# Altium footprint library TSSOP_50P_L.PcbLib: 24 footprints (part 1 of 2)
Each footprint in its own frame and in the unit in brackets; x right, y up, seen from the top. Pads: shape width x height; smd on the part's side, far side on the other; paste and mask are expansions set on the pad; w line width, h text height; cw(c..) or ccw(c..) is an arc to the next point about the centre after c.
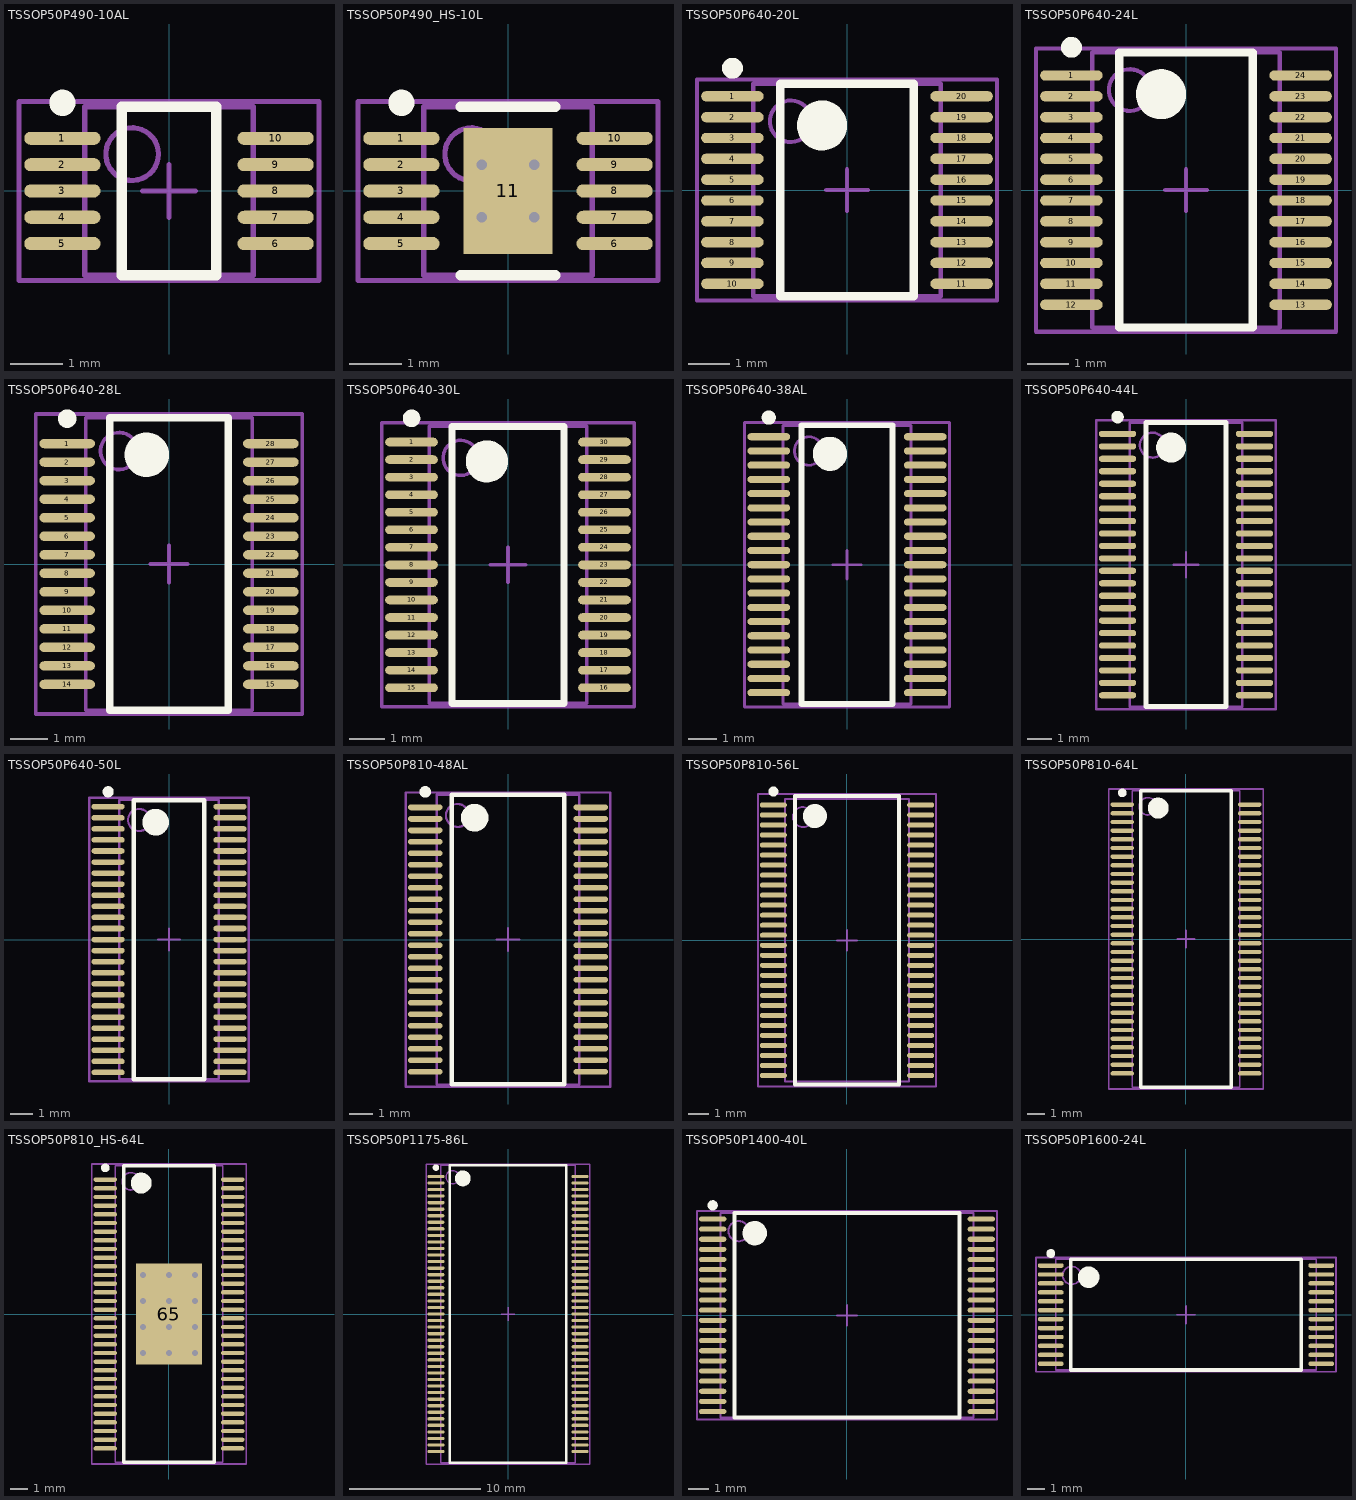
[diagram p0: the footprints below, top view; thin cyan lines are the x and y axes]

## TSSOP50P490-10AL [mm] "TSSOP, 10-Leads, Body 3x3mm, Pitch 0.5mm, IPC High Density"
height 1.1
pads (10):
  oval 1.45x0.25 smd: 1(-2.025,1) 2(-2.025,0.5) 3(-2.025,0) 4(-2.025,-0.5) 5(-2.025,-1) 6(2.025,-1) 7(2.025,-0.5) 8(2.025,0) 9(2.025,0.5) 10(2.025,1)
Top Overlay:
  circle w0.25: c-2.025,1.675 r0.125
  lines w0.2: -0.9,-1.6 -0.9,1.6 0.9,1.6 0.9,-1.6 -0.9,-1.6
Mechanical 13:
  circle w0.1: c-0.7,0.7 r0.5
  lines w0.1: -1.6,-1.6 -1.6,1.6 1.6,1.6 1.6,-1.6 -1.6,-1.6
Mechanical 15:
  lines w0.1: -0.5,0 0.5,0 ; 0,-0.5 0,0.5 ; -2.85,-1.7 -2.85,1.7 2.85,1.7 2.85,-1.7 -2.85,-1.7
3D body: height 1.1, standoff 0, extent -1.6,-1.6 1.6,1.6

## TSSOP50P490_HS-10L [mm] "TSSOP, 10-Leads, Body 3x3mm, Pitch 0.5mm, Exposed Pad, IPC High Density"
height 1.1
pads (11):
  oval 1.45x0.25 smd: 1(-2.025,1) 2(-2.025,0.5) 3(-2.025,0) 4(-2.025,-0.5) 5(-2.025,-1) 6(2.025,-1) 7(2.025,-0.5) 8(2.025,0) 9(2.025,0.5) 10(2.025,1)
  rect 1.7x2.4 smd: 11(0,0)
via -0.5,0.5 diameter 0.4 hole 0.2
via 0.5,0.5 diameter 0.4 hole 0.2
via -0.5,-0.5 diameter 0.4 hole 0.2
via 0.5,-0.5 diameter 0.4 hole 0.2
Top Overlay:
  circle w0.25: c-2.025,1.675 r0.125
  lines w0.2: -0.9,-1.6 0.9,-1.6 ; -0.9,1.6 0.9,1.6
Mechanical 13:
  circle w0.1: c-0.7,0.7 r0.5
  lines w0.1: -1.6,-1.6 -1.6,1.6 1.6,1.6 1.6,-1.6 -1.6,-1.6
Mechanical 15:
  lines w0.1: -0.5,0 0.5,0 ; 0,-0.5 0,0.5 ; -2.85,-1.7 -2.85,1.7 2.85,1.7 2.85,-1.7 -2.85,-1.7
3D body: height 1.1, standoff 0.05, extent -1.6,-1.6 1.6,1.6

## TSSOP50P640-20L [mm] "TSSOP, 20-Leads, Body 5x4.4mm, Pitch 0.5mm, IPC High Density"
height 1.2
pads (20):
  oval 1.5x0.25 smd: 1(-2.75,2.25) 2(-2.75,1.75) 3(-2.75,1.25) 4(-2.75,0.75) 5(-2.75,0.25) 6(-2.75,-0.25) 7(-2.75,-0.75) 8(-2.75,-1.25) 9(-2.75,-1.75) 10(-2.75,-2.25) 11(2.75,-2.25) 12(2.75,-1.75) 13(2.75,-1.25) 14(2.75,-0.75) 15(2.75,-0.25) 16(2.75,0.25) 17(2.75,0.75) 18(2.75,1.25) 19(2.75,1.75) 20(2.75,2.25)
Top Overlay:
  circle w0.25: c-2.75,2.925 r0.125
  circle w0.6: c-0.6,1.55 r0.3
  lines w0.2: -1.6,-2.55 -1.6,2.55 1.6,2.55 1.6,-2.55 -1.6,-2.55
Mechanical 13:
  circle w0.1: c-1.35,1.65 r0.5
  lines w0.1: -2.25,-2.55 -2.25,2.55 2.25,2.55 2.25,-2.55 -2.25,-2.55
Mechanical 15:
  lines w0.1: -0.5,0 0.5,0 ; 0,-0.5 0,0.5 ; -3.6,-2.65 -3.6,2.65 3.6,2.65 3.6,-2.65 -3.6,-2.65
3D body: height 1.2, standoff 0, extent -2.25,-2.55 2.25,2.55

## TSSOP50P640-24L [mm] "TSSOP, 24-Leads, Body 6.5x4.4mm, Pitch 0.5mm, IPC High Density"
height 1.2
pads (24):
  oval 1.5x0.25 smd: 1(-2.75,2.75) 2(-2.75,2.25) 3(-2.75,1.75) 4(-2.75,1.25) 5(-2.75,0.75) 6(-2.75,0.25) 7(-2.75,-0.25) 8(-2.75,-0.75) 9(-2.75,-1.25) 10(-2.75,-1.75) 11(-2.75,-2.25) 12(-2.75,-2.75) 13(2.75,-2.75) 14(2.75,-2.25) 15(2.75,-1.75) 16(2.75,-1.25) 17(2.75,-0.75) 18(2.75,-0.25) 19(2.75,0.25) 20(2.75,0.75) 21(2.75,1.25) 22(2.75,1.75) 23(2.75,2.25) 24(2.75,2.75)
Top Overlay:
  circle w0.6: c-0.6,2.3 r0.3
  circle w0.25: c-2.75,3.425 r0.125
  lines w0.2: -1.6,-3.3 1.6,-3.3 1.6,3.3 -1.6,3.3 -1.6,-3.3
Mechanical 13:
  circle w0.1: c-1.35,2.4 r0.5
  lines w0.1: -2.25,-3.3 2.25,-3.3 2.25,3.3 -2.25,3.3 -2.25,-3.3
Mechanical 15:
  lines w0.1: -0.5,0 0.5,0 ; 0,-0.5 0,0.5 ; -3.6,-3.4 3.6,-3.4 3.6,3.4 -3.6,3.4 -3.6,-3.4
3D body: height 1.2, standoff 0, extent -2.25,-3.3 2.25,3.3

## TSSOP50P640-28L [mm] "TSSOP, 28-Leads, Body 7.8x4.4mm, Pitch 0.5mm, IPC High Density"
height 1.2
pads (28):
  oval 1.5x0.25 smd: 1(-2.75,3.25) 2(-2.75,2.75) 3(-2.75,2.25) 4(-2.75,1.75) 5(-2.75,1.25) 6(-2.75,0.75) 7(-2.75,0.25) 8(-2.75,-0.25) 9(-2.75,-0.75) 10(-2.75,-1.25) 11(-2.75,-1.75) 12(-2.75,-2.25) 13(-2.75,-2.75) 14(-2.75,-3.25) 15(2.75,-3.25) 16(2.75,-2.75) 17(2.75,-2.25) 18(2.75,-1.75) 19(2.75,-1.25) 20(2.75,-0.75) 21(2.75,-0.25) 22(2.75,0.25) 23(2.75,0.75) 24(2.75,1.25) 25(2.75,1.75) 26(2.75,2.25) 27(2.75,2.75) 28(2.75,3.25)
Top Overlay:
  circle w0.6: c-0.6,2.95 r0.3
  circle w0.25: c-2.75,3.925 r0.125
  lines w0.2: -1.6,-3.95 1.6,-3.95 1.6,3.95 -1.6,3.95 -1.6,-3.95
Mechanical 13:
  circle w0.1: c-1.35,3.05 r0.5
  lines w0.1: -2.25,-3.95 2.25,-3.95 2.25,3.95 -2.25,3.95 -2.25,-3.95
Mechanical 15:
  lines w0.1: -0.5,0 0.5,0 ; 0,-0.5 0,0.5 ; -3.6,-4.05 3.6,-4.05 3.6,4.05 -3.6,4.05 -3.6,-4.05
3D body: height 1.2, standoff 0, extent -2.25,-3.95 2.25,3.95

## TSSOP50P640-30L [mm] "TSSOP, 30-Leads, Body 7.8x4.4mm, Pitch 0.5mm, IPC High Density"
height 1.2
pads (30):
  oval 1.5x0.25 smd: 1(-2.75,3.5) 2(-2.75,3) 3(-2.75,2.5) 4(-2.75,2) 5(-2.75,1.5) 6(-2.75,1) 7(-2.75,0.5) 8(-2.75,0) 9(-2.75,-0.5) 10(-2.75,-1) 11(-2.75,-1.5) 12(-2.75,-2) 13(-2.75,-2.5) 14(-2.75,-3) 15(-2.75,-3.5) 16(2.75,-3.5) 17(2.75,-3) 18(2.75,-2.5) 19(2.75,-2) 20(2.75,-1.5) 21(2.75,-1) 22(2.75,-0.5) 23(2.75,0) 24(2.75,0.5) 25(2.75,1) 26(2.75,1.5) 27(2.75,2) 28(2.75,2.5) 29(2.75,3) 30(2.75,3.5)
Top Overlay:
  circle w0.6: c-0.6,2.95 r0.3
  circle w0.25: c-2.75,4.175 r0.125
  lines w0.2: -1.6,-3.95 1.6,-3.95 1.6,3.95 -1.6,3.95 -1.6,-3.95
Mechanical 13:
  circle w0.1: c-1.35,3.05 r0.5
  lines w0.1: -2.25,-3.95 2.25,-3.95 2.25,3.95 -2.25,3.95 -2.25,-3.95
Mechanical 15:
  lines w0.1: -0.5,0 0.5,0 ; 0,-0.5 0,0.5 ; -3.6,-4.05 3.6,-4.05 3.6,4.05 -3.6,4.05 -3.6,-4.05
3D body: height 1.2, standoff 0, extent -2.25,-3.95 2.25,3.95

## TSSOP50P640-38AL [mm] "TSSOP, 38-Leads, Body 9.7x4.4mm, Pitch 0.5mm, IPC High Density"
height 1.2
pads (38):
  oval 1.5x0.25 smd: 1(-2.75,4.5) 2(-2.75,4) 3(-2.75,3.5) 4(-2.75,3) 5(-2.75,2.5) 6(-2.75,2) 7(-2.75,1.5) 8(-2.75,1) 9(-2.75,0.5) 10(-2.75,0) 11(-2.75,-0.5) 12(-2.75,-1) 13(-2.75,-1.5) 14(-2.75,-2) 15(-2.75,-2.5) 16(-2.75,-3) 17(-2.75,-3.5) 18(-2.75,-4) 19(-2.75,-4.5) 20(2.75,-4.5) 21(2.75,-4) 22(2.75,-3.5) 23(2.75,-3) 24(2.75,-2.5) 25(2.75,-2) 26(2.75,-1.5) 27(2.75,-1) 28(2.75,-0.5) 29(2.75,0) 30(2.75,0.5) 31(2.75,1) 32(2.75,1.5) 33(2.75,2) 34(2.75,2.5) 35(2.75,3) 36(2.75,3.5) 37(2.75,4) 38(2.75,4.5)
Top Overlay:
  circle w0.6: c-0.6,3.9 r0.3
  circle w0.25: c-2.75,5.175 r0.125
  lines w0.2: -1.6,-4.9 1.6,-4.9 1.6,4.9 -1.6,4.9 -1.6,-4.9
Mechanical 13:
  circle w0.1: c-1.35,4 r0.5
  lines w0.1: -2.25,-4.9 2.25,-4.9 2.25,4.9 -2.25,4.9 -2.25,-4.9
Mechanical 15:
  lines w0.1: -0.5,0 0.5,0 ; 0,-0.5 0,0.5 ; -3.6,-5 3.6,-5 3.6,5 -3.6,5 -3.6,-5
3D body: height 1.2, standoff 0, extent -2.25,-4.9 2.25,4.9

## TSSOP50P640-44L [mm] "TSSOP, 44-Leads, Body 11x4.4mm, Pitch 0.5mm, IPC High Density"
height 1.2
pads (44):
  oval 1.5x0.25 smd: 1(-2.75,5.25) 2(-2.75,4.75) 3(-2.75,4.25) 4(-2.75,3.75) 5(-2.75,3.25) 6(-2.75,2.75) 7(-2.75,2.25) 8(-2.75,1.75) 9(-2.75,1.25) 10(-2.75,0.75) 11(-2.75,0.25) 12(-2.75,-0.25) 13(-2.75,-0.75) 14(-2.75,-1.25) 15(-2.75,-1.75) 16(-2.75,-2.25) 17(-2.75,-2.75) 18(-2.75,-3.25) 19(-2.75,-3.75) 20(-2.75,-4.25) 21(-2.75,-4.75) 22(-2.75,-5.25) 23(2.75,-5.25) 24(2.75,-4.75) 25(2.75,-4.25) 26(2.75,-3.75) 27(2.75,-3.25) 28(2.75,-2.75) 29(2.75,-2.25) 30(2.75,-1.75) 31(2.75,-1.25) 32(2.75,-0.75) 33(2.75,-0.25) 34(2.75,0.25) 35(2.75,0.75) 36(2.75,1.25) 37(2.75,1.75) 38(2.75,2.25) 39(2.75,2.75) 40(2.75,3.25) 41(2.75,3.75) 42(2.75,4.25) 43(2.75,4.75) 44(2.75,5.25)
Top Overlay:
  circle w0.25: c-2.75,5.925 r0.125
  circle w0.6: c-0.6,4.7 r0.3
  lines w0.2: -1.6,-5.7 -1.6,5.7 1.6,5.7 1.6,-5.7 -1.6,-5.7
Mechanical 13:
  circle w0.1: c-1.35,4.8 r0.5
  lines w0.1: -2.25,-5.7 -2.25,5.7 2.25,5.7 2.25,-5.7 -2.25,-5.7
Mechanical 15:
  lines w0.1: -0.5,0 0.5,0 ; 0,-0.5 0,0.5 ; -3.6,-5.8 -3.6,5.8 3.6,5.8 3.6,-5.8 -3.6,-5.8
3D body: height 1.2, standoff 0, extent -2.25,-5.7 2.25,5.7

## TSSOP50P640-50L [mm] "TSSOP, 50-Leads, Body 12.5x4.4mm, Pitch 0.5mm, IPC High Density"
height 1.2
pads (50):
  oval 1.5x0.25 smd: 1(-2.75,6) 2(-2.75,5.5) 3(-2.75,5) 4(-2.75,4.5) 5(-2.75,4) 6(-2.75,3.5) 7(-2.75,3) 8(-2.75,2.5) 9(-2.75,2) 10(-2.75,1.5) 11(-2.75,1) 12(-2.75,0.5) 13(-2.75,0) 14(-2.75,-0.5) 15(-2.75,-1) 16(-2.75,-1.5) 17(-2.75,-2) 18(-2.75,-2.5) 19(-2.75,-3) 20(-2.75,-3.5) 21(-2.75,-4) 22(-2.75,-4.5) 23(-2.75,-5) 24(-2.75,-5.5) 25(-2.75,-6) 26(2.75,-6) 27(2.75,-5.5) 28(2.75,-5) 29(2.75,-4.5) 30(2.75,-4) 31(2.75,-3.5) 32(2.75,-3) 33(2.75,-2.5) 34(2.75,-2) 35(2.75,-1.5) 36(2.75,-1) 37(2.75,-0.5) 38(2.75,0) 39(2.75,0.5) 40(2.75,1) 41(2.75,1.5) 42(2.75,2) 43(2.75,2.5) 44(2.75,3) 45(2.75,3.5) 46(2.75,4) 47(2.75,4.5) 48(2.75,5) 49(2.75,5.5) 50(2.75,6)
Top Overlay:
  circle w0.6: c-0.6,5.3 r0.3
  circle w0.25: c-2.75,6.675 r0.125
  lines w0.2: -1.6,-6.3 1.6,-6.3 1.6,6.3 -1.6,6.3 -1.6,-6.3
Mechanical 13:
  circle w0.1: c-1.35,5.4 r0.5
  lines w0.1: -2.25,-6.3 2.25,-6.3 2.25,6.3 -2.25,6.3 -2.25,-6.3
Mechanical 15:
  lines w0.1: -0.5,0 0.5,0 ; 0,-0.5 0,0.5 ; -3.6,-6.4 3.6,-6.4 3.6,6.4 -3.6,6.4 -3.6,-6.4
3D body: height 1.2, standoff 0, extent -2.25,-6.3 2.25,6.3

## TSSOP50P810-48AL [mm] "TSSOP, 48-Leads, Body 12.5x6.1mm, Pitch 0.5mm, IPC High Density"
height 1.2
pads (48):
  oval 1.5x0.25 smd: 1(-3.6,5.75) 2(-3.6,5.25) 3(-3.6,4.75) 4(-3.6,4.25) 5(-3.6,3.75) 6(-3.6,3.25) 7(-3.6,2.75) 8(-3.6,2.25) 9(-3.6,1.75) 10(-3.6,1.25) 11(-3.6,0.75) 12(-3.6,0.25) 13(-3.6,-0.25) 14(-3.6,-0.75) 15(-3.6,-1.25) 16(-3.6,-1.75) 17(-3.6,-2.25) 18(-3.6,-2.75) 19(-3.6,-3.25) 20(-3.6,-3.75) 21(-3.6,-4.25) 22(-3.6,-4.75) 23(-3.6,-5.25) 24(-3.6,-5.75) 25(3.6,-5.75) 26(3.6,-5.25) 27(3.6,-4.75) 28(3.6,-4.25) 29(3.6,-3.75) 30(3.6,-3.25) 31(3.6,-2.75) 32(3.6,-2.25) 33(3.6,-1.75) 34(3.6,-1.25) 35(3.6,-0.75) 36(3.6,-0.25) 37(3.6,0.25) 38(3.6,0.75) 39(3.6,1.25) 40(3.6,1.75) 41(3.6,2.25) 42(3.6,2.75) 43(3.6,3.25) 44(3.6,3.75) 45(3.6,4.25) 46(3.6,4.75) 47(3.6,5.25) 48(3.6,5.75)
Top Overlay:
  circle w0.6: c-1.45,5.3 r0.3
  circle w0.25: c-3.6,6.425 r0.125
  lines w0.2: -2.45,-6.3 2.45,-6.3 2.45,6.3 -2.45,6.3 -2.45,-6.3
Mechanical 13:
  circle w0.1: c-2.2,5.4 r0.5
  lines w0.1: -3.1,-6.3 3.1,-6.3 3.1,6.3 -3.1,6.3 -3.1,-6.3
Mechanical 15:
  lines w0.1: -0.5,0 0.5,0 ; 0,-0.5 0,0.5 ; -4.45,-6.4 4.45,-6.4 4.45,6.4 -4.45,6.4 -4.45,-6.4
3D body: height 1.2, standoff 0, extent -3.1,-6.3 3.1,6.3

## TSSOP50P810-56L [mm] "TSSOP, 56-Leads, Body 14x6.1mm, Pitch 0.5mm, IPC High Density"
height 1.2
pads (56):
  oval 1.35x0.25 smd: 1(-3.675,6.75) 2(-3.675,6.25) 3(-3.675,5.75) 4(-3.675,5.25) 5(-3.675,4.75) 6(-3.675,4.25) 7(-3.675,3.75) 8(-3.675,3.25) 9(-3.675,2.75) 10(-3.675,2.25) 11(-3.675,1.75) 12(-3.675,1.25) 13(-3.675,0.75) 14(-3.675,0.25) 15(-3.675,-0.25) 16(-3.675,-0.75) 17(-3.675,-1.25) 18(-3.675,-1.75) 19(-3.675,-2.25) 20(-3.675,-2.75) 21(-3.675,-3.25) 22(-3.675,-3.75) 23(-3.675,-4.25) 24(-3.675,-4.75) 25(-3.675,-5.25) 26(-3.675,-5.75) 27(-3.675,-6.25) 28(-3.675,-6.75) 29(3.675,-6.75) 30(3.675,-6.25) 31(3.675,-5.75) 32(3.675,-5.25) 33(3.675,-4.75) 34(3.675,-4.25) 35(3.675,-3.75) 36(3.675,-3.25) 37(3.675,-2.75) 38(3.675,-2.25) 39(3.675,-1.75) 40(3.675,-1.25) 41(3.675,-0.75) 42(3.675,-0.25) 43(3.675,0.25) 44(3.675,0.75) 45(3.675,1.25) 46(3.675,1.75) 47(3.675,2.25) 48(3.675,2.75) 49(3.675,3.25) 50(3.675,3.75) 51(3.675,4.25) 52(3.675,4.75) 53(3.675,5.25) 54(3.675,5.75) 55(3.675,6.25) 56(3.675,6.75)
Top Overlay:
  circle w0.6: c-1.6,6.2 r0.3
  circle w0.25: c-3.675,7.425 r0.125
  lines w0.2: -2.6,-7.2 2.6,-7.2 2.6,7.2 -2.6,7.2 -2.6,-7.2
Mechanical 13:
  circle w0.1: c-2.2,6.15 r0.5
  lines w0.1: -3.1,-7.05 3.1,-7.05 3.1,7.05 -3.1,7.05 -3.1,-7.05
Mechanical 15:
  lines w0.1: -0.5,0 0.5,0 ; 0,-0.5 0,0.5 ; -4.45,-7.3 4.45,-7.3 4.45,7.3 -4.45,7.3 -4.45,-7.3
3D body: height 1.2, standoff 0, extent -3.1,-7.05 3.1,7.05

## TSSOP50P810-64L [mm] "TSSOP, 64-Leads, Body 17x6.1mm, Pitch 0.5mm, IPC High Density"
height 1.2
pads (64):
  oval 1.35x0.25 smd: 1(-3.675,7.75) 2(-3.675,7.25) 3(-3.675,6.75) 4(-3.675,6.25) 5(-3.675,5.75) 6(-3.675,5.25) 7(-3.675,4.75) 8(-3.675,4.25) 9(-3.675,3.75) 10(-3.675,3.25) 11(-3.675,2.75) 12(-3.675,2.25) 13(-3.675,1.75) 14(-3.675,1.25) 15(-3.675,0.75) 16(-3.675,0.25) 17(-3.675,-0.25) 18(-3.675,-0.75) 19(-3.675,-1.25) 20(-3.675,-1.75) 21(-3.675,-2.25) 22(-3.675,-2.75) 23(-3.675,-3.25) 24(-3.675,-3.75) 25(-3.675,-4.25) 26(-3.675,-4.75) 27(-3.675,-5.25) 28(-3.675,-5.75) 29(-3.675,-6.25) 30(-3.675,-6.75) 31(-3.675,-7.25) 32(-3.675,-7.75) 33(3.675,-7.75) 34(3.675,-7.25) 35(3.675,-6.75) 36(3.675,-6.25) 37(3.675,-5.75) 38(3.675,-5.25) 39(3.675,-4.75) 40(3.675,-4.25) 41(3.675,-3.75) 42(3.675,-3.25) 43(3.675,-2.75) 44(3.675,-2.25) 45(3.675,-1.75) 46(3.675,-1.25) 47(3.675,-0.75) 48(3.675,-0.25) 49(3.675,0.25) 50(3.675,0.75) 51(3.675,1.25) 52(3.675,1.75) 53(3.675,2.25) 54(3.675,2.75) 55(3.675,3.25) 56(3.675,3.75) 57(3.675,4.25) 58(3.675,4.75) 59(3.675,5.25) 60(3.675,5.75) 61(3.675,6.25) 62(3.675,6.75) 63(3.675,7.25) 64(3.675,7.75)
Top Overlay:
  circle w0.25: c-3.675,8.425 r0.125
  circle w0.6: c-1.6,7.55 r0.3
  lines w0.2: -2.6,-8.55 -2.6,8.55 2.6,8.55 2.6,-8.55 -2.6,-8.55
Mechanical 13:
  circle w0.1: c-2.2,7.65 r0.5
  lines w0.1: -3.1,-8.55 -3.1,8.55 3.1,8.55 3.1,-8.55 -3.1,-8.55
Mechanical 15:
  lines w0.1: -0.5,0 0.5,0 ; 0,-0.5 0,0.5 ; -4.45,-8.65 -4.45,8.65 4.45,8.65 4.45,-8.65 -4.45,-8.65
3D body: height 1.2, standoff 0, extent -3.1,-8.55 3.1,8.55

## TSSOP50P810_HS-64L [mm] "TSSOP, 64-Leads, Body 17x6.1mm, Pitch 0.5mm, Exposed Pad, IPC High Density"
height 1.1
pads (65):
  oval 1.35x0.25 smd: 1(-3.675,7.75) 2(-3.675,7.25) 3(-3.675,6.75) 4(-3.675,6.25) 5(-3.675,5.75) 6(-3.675,5.25) 7(-3.675,4.75) 8(-3.675,4.25) 9(-3.675,3.75) 10(-3.675,3.25) 11(-3.675,2.75) 12(-3.675,2.25) 13(-3.675,1.75) 14(-3.675,1.25) 15(-3.675,0.75) 16(-3.675,0.25) 17(-3.675,-0.25) 18(-3.675,-0.75) 19(-3.675,-1.25) 20(-3.675,-1.75) 21(-3.675,-2.25) 22(-3.675,-2.75) 23(-3.675,-3.25) 24(-3.675,-3.75) 25(-3.675,-4.25) 26(-3.675,-4.75) 27(-3.675,-5.25) 28(-3.675,-5.75) 29(-3.675,-6.25) 30(-3.675,-6.75) 31(-3.675,-7.25) 32(-3.675,-7.75) 33(3.675,-7.75) 34(3.675,-7.25) 35(3.675,-6.75) 36(3.675,-6.25) 37(3.675,-5.75) 38(3.675,-5.25) 39(3.675,-4.75) 40(3.675,-4.25) 41(3.675,-3.75) 42(3.675,-3.25) 43(3.675,-2.75) 44(3.675,-2.25) 45(3.675,-1.75) 46(3.675,-1.25) 47(3.675,-0.75) 48(3.675,-0.25) 49(3.675,0.25) 50(3.675,0.75) 51(3.675,1.25) 52(3.675,1.75) 53(3.675,2.25) 54(3.675,2.75) 55(3.675,3.25) 56(3.675,3.75) 57(3.675,4.25) 58(3.675,4.75) 59(3.675,5.25) 60(3.675,5.75) 61(3.675,6.25) 62(3.675,6.75) 63(3.675,7.25) 64(3.675,7.75)
  rect 3.81x5.81 smd: 65(0,0)
via 1.5,-2.25 diameter 0.43 hole 0.33
via 0,-2.25 diameter 0.43 hole 0.33
via -1.5,-2.25 diameter 0.43 hole 0.33
via 1.5,-0.75 diameter 0.43 hole 0.33
via 0,-0.75 diameter 0.43 hole 0.33
via -1.5,-0.75 diameter 0.43 hole 0.33
via 1.5,0.75 diameter 0.43 hole 0.33
via 0,0.75 diameter 0.43 hole 0.33
via -1.5,0.75 diameter 0.43 hole 0.33
via 1.5,2.25 diameter 0.43 hole 0.33
via 0,2.25 diameter 0.43 hole 0.33
via -1.5,2.25 diameter 0.43 hole 0.33
Top Overlay:
  circle w0.6: c-1.6,7.55 r0.3
  circle w0.25: c-3.675,8.425 r0.125
  lines w0.2: -2.6,-8.55 2.6,-8.55 2.6,8.55 -2.6,8.55 -2.6,-8.55
Mechanical 13:
  circle w0.1: c-2.2,7.65 r0.5
  lines w0.1: -3.1,-8.55 3.1,-8.55 3.1,8.55 -3.1,8.55 -3.1,-8.55
Mechanical 15:
  lines w0.1: -0.5,0 0.5,0 ; 0,-0.5 0,0.5 ; -4.45,-8.65 4.45,-8.65 4.45,8.65 -4.45,8.65 -4.45,-8.65
3D body: height 1.1, standoff 0.05, extent -3.1,-8.55 3.1,8.55

## TSSOP50P1175-86L [mm] "TSSOP, 86-Leads, Body 22.2x10.2mm, Pitch 0.5mm, IPC High Density"
height 1.2
pads (86):
  oval 1.3x0.25 smd: 1(-5.5,10.5) 2(-5.5,10) 3(-5.5,9.5) 4(-5.5,9) 5(-5.5,8.5) 6(-5.5,8) 7(-5.5,7.5) 8(-5.5,7) 9(-5.5,6.5) 10(-5.5,6) 11(-5.5,5.5) 12(-5.5,5) 13(-5.5,4.5) 14(-5.5,4) 15(-5.5,3.5) 16(-5.5,3) 17(-5.5,2.5) 18(-5.5,2) 19(-5.5,1.5) 20(-5.5,1) 21(-5.5,0.5) 22(-5.5,0) 23(-5.5,-0.5) 24(-5.5,-1) 25(-5.5,-1.5) 26(-5.5,-2) 27(-5.5,-2.5) 28(-5.5,-3) 29(-5.5,-3.5) 30(-5.5,-4) 31(-5.5,-4.5) 32(-5.5,-5) 33(-5.5,-5.5) 34(-5.5,-6) 35(-5.5,-6.5) 36(-5.5,-7) 37(-5.5,-7.5) 38(-5.5,-8) 39(-5.5,-8.5) 40(-5.5,-9) 41(-5.5,-9.5) 42(-5.5,-10) 43(-5.5,-10.5) 44(5.5,-10.5) 45(5.5,-10) 46(5.5,-9.5) 47(5.5,-9) 48(5.5,-8.5) 49(5.5,-8) 50(5.5,-7.5) 51(5.5,-7) 52(5.5,-6.5) 53(5.5,-6) 54(5.5,-5.5) 55(5.5,-5) 56(5.5,-4.5) 57(5.5,-4) 58(5.5,-3.5) 59(5.5,-3) 60(5.5,-2.5) 61(5.5,-2) 62(5.5,-1.5) 63(5.5,-1) 64(5.5,-0.5) 65(5.5,0) 66(5.5,0.5) 67(5.5,1) 68(5.5,1.5) 69(5.5,2) 70(5.5,2.5) 71(5.5,3) 72(5.5,3.5) 73(5.5,4) 74(5.5,4.5) 75(5.5,5) 76(5.5,5.5) 77(5.5,6) 78(5.5,6.5) 79(5.5,7) 80(5.5,7.5) 81(5.5,8) 82(5.5,8.5) 83(5.5,9) 84(5.5,9.5) 85(5.5,10) 86(5.5,10.5)
Top Overlay:
  circle w0.6: c-3.45,10.35 r0.3
  circle w0.25: c-5.5,11.175 r0.125
  lines w0.2: -4.45,-11.35 4.45,-11.35 4.45,11.35 -4.45,11.35 -4.45,-11.35
Mechanical 13:
  circle w0.1: c-4.225,10.45 r0.5
  lines w0.1: -5.125,-11.35 5.125,-11.35 5.125,11.35 -5.125,11.35 -5.125,-11.35
Mechanical 15:
  lines w0.1: -0.5,0 0.5,0 ; 0,-0.5 0,0.5 ; -6.25,-11.45 6.25,-11.45 6.25,11.45 -6.25,11.45 -6.25,-11.45
3D body: height 1.2, standoff 0, extent -5.125,-11.35 5.125,11.35

## TSSOP50P1400-40L [mm] "TSSOP, 40-Leads, Body 10x14.4mm, Pitch 0.5mm, IPC High Density"
height 1.2
pads (40):
  oval 1.35x0.25 smd: 1(-6.625,4.75) 2(-6.625,4.25) 3(-6.625,3.75) 4(-6.625,3.25) 5(-6.625,2.75) 6(-6.625,2.25) 7(-6.625,1.75) 8(-6.625,1.25) 9(-6.625,0.75) 10(-6.625,0.25) 11(-6.625,-0.25) 12(-6.625,-0.75) 13(-6.625,-1.25) 14(-6.625,-1.75) 15(-6.625,-2.25) 16(-6.625,-2.75) 17(-6.625,-3.25) 18(-6.625,-3.75) 19(-6.625,-4.25) 20(-6.625,-4.75) 21(6.625,-4.75) 22(6.625,-4.25) 23(6.625,-3.75) 24(6.625,-3.25) 25(6.625,-2.75) 26(6.625,-2.25) 27(6.625,-1.75) 28(6.625,-1.25) 29(6.625,-0.75) 30(6.625,-0.25) 31(6.625,0.25) 32(6.625,0.75) 33(6.625,1.25) 34(6.625,1.75) 35(6.625,2.25) 36(6.625,2.75) 37(6.625,3.25) 38(6.625,3.75) 39(6.625,4.25) 40(6.625,4.75)
Top Overlay:
  circle w0.6: c-4.55,4.05 r0.3
  circle w0.25: c-6.625,5.425 r0.125
  lines w0.2: -5.55,-5.05 5.55,-5.05 5.55,5.05 -5.55,5.05 -5.55,-5.05
Mechanical 13:
  circle w0.1: c-5.35,4.15 r0.5
  lines w0.1: -6.25,-5.05 6.25,-5.05 6.25,5.05 -6.25,5.05 -6.25,-5.05
Mechanical 15:
  lines w0.1: -0.5,0 0.5,0 ; 0,-0.5 0,0.5 ; -7.4,-5.15 7.4,-5.15 7.4,5.15 -7.4,5.15 -7.4,-5.15
3D body: height 1.2, standoff 0, extent -6.25,-5.05 6.25,5.05

## TSSOP50P1600-24L [mm] "TSSOP, 24-Leads, Body 6x14.4mm, Pitch 0.5mm, IPC High Density"
height 1.27
pads (24):
  oval 1.45x0.25 smd: 1(-7.575,2.75) 2(-7.575,2.25) 3(-7.575,1.75) 4(-7.575,1.25) 5(-7.575,0.75) 6(-7.575,0.25) 7(-7.575,-0.25) 8(-7.575,-0.75) 9(-7.575,-1.25) 10(-7.575,-1.75) 11(-7.575,-2.25) 12(-7.575,-2.75) 13(7.575,-2.75) 14(7.575,-2.25) 15(7.575,-1.75) 16(7.575,-1.25) 17(7.575,-0.75) 18(7.575,-0.25) 19(7.575,0.25) 20(7.575,0.75) 21(7.575,1.25) 22(7.575,1.75) 23(7.575,2.25) 24(7.575,2.75)
Top Overlay:
  circle w0.6: c-5.45,2.1 r0.3
  circle w0.25: c-7.575,3.425 r0.125
  lines w0.2: -6.45,-3.1 6.45,-3.1 6.45,3.1 -6.45,3.1 -6.45,-3.1
Mechanical 13:
  circle w0.1: c-6.4,2.2 r0.5
  lines w0.1: -7.3,-3.1 7.3,-3.1 7.3,3.1 -7.3,3.1 -7.3,-3.1
Mechanical 15:
  lines w0.1: -0.5,0 0.5,0 ; 0,-0.5 0,0.5 ; -8.4,-3.2 8.4,-3.2 8.4,3.2 -8.4,3.2 -8.4,-3.2
3D body: height 1.27, standoff 0, extent -7.3,-3.1 7.3,3.1